# Altium schematic symbol library Matsushita Relay 12V.SCHLIB: 1 symbol
Pins are listed as number, name and electrical type; pins without a type are passive.

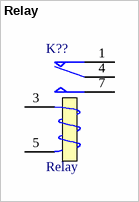
[diagram p0: symbol Relay]

## Relay
designator K??
SPDT Relay; Published: 8-Jun-2000; LatestRevisionDate: 17-Jul-2002; LatestRevisionNote: Re-released for DXP Platform.; PackageReference: MODULE5B; Publisher: Altium Limited
footprint Matsushita Relay 12V
pins: 1 NC, 3 T1, 4 COM, 5 T2, 7 NO